# Altium footprint library TMR 6-7211WIR.PcbLib: 1 footprints
Each footprint in its own frame and in the unit in brackets; x right, y up, seen from the top. Pads: shape width x height; smd on the part's side, far side on the other; paste and mask are expansions set on the pad; w line width, h text height; cw(c..) or ccw(c..) is an arc to the next point about the centre after c.
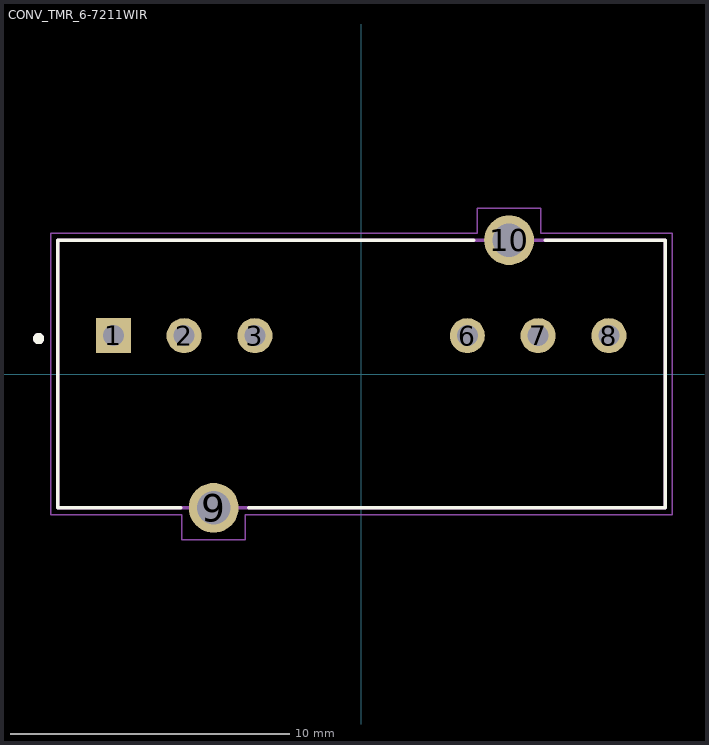
[diagram p0: the footprint, top view; thin cyan lines are the x and y axes]

## CONV_TMR_6-7211WIR [mm]
pads (8):
  rect 1.258x1.258 hole 0.75: 1(-8.9,1.375)
  round 1.258 hole 0.75: 2(-6.36,1.375) 3(-3.82,1.375) 6(3.8,1.375) 7(6.34,1.375) 8(8.88,1.375)
  round 1.785 hole 1.19: 9(-5.3,-4.8) 10(5.3,4.8)
Top Overlay:
  circle w0.2: c-11.581,1.27 r0.1
  lines w0.127: -6.477,-4.8 -10.9,-4.8 -10.9,4.8 4.038,4.8 ; -4.038,-4.8 10.9,-4.8 10.9,4.8 6.604,4.8
Mechanical 13:
  circle w0.2: c-11.581,1.27 r0.1
  lines w0.127: -10.9,-4.8 -10.9,4.8 10.9,4.8 10.9,-4.8 -10.9,-4.8
Mechanical 15:
  lines w0.05: -11.15,-5.05 -11.15,5.05 4.16,5.05 4.16,5.94 6.44,5.94 6.44,5.05 11.15,5.05 11.15,-5.05 -4.16,-5.05 -4.16,-5.94 -6.44,-5.94 -6.44,-5.05 -11.15,-5.05
3D body "step_temp.STEP": height 14.7, standoff -0.6, extent -10.922,-4.851 10.922,4.851